# Altium schematic symbol library IFSC1111ABER4R7M01.Schlib: 1 symbol
Pins are listed as number, name and electrical type; pins without a type are passive.

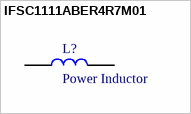
[diagram p0: symbol IFSC1111ABER4R7M01]

## IFSC1111ABER4R7M01
designator L?, comment Power Inductor
IND PWR SM 4.7uH
pins: 1, 2